# EAGLE library part JUMPER_JP3Q (library DLOCK_DAUGHTER_CARD_V0.2)
JUMPER
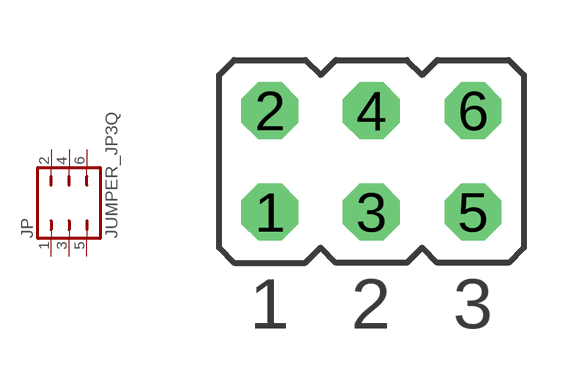
[diagram p4: symbol with the pads of JUMPER_JP3Q; footprint JUMPER_JP3Q]

Designator prefix JP

## JUMPER_JP3Q  [JUMPER_JP3Q]
1  1  pas
2  2  pas
3  3  pas
4  4  pas
5  5  pas
6  6  pas

## Footprint JUMPER_JP3Q (pad centres in mm)
JUMPER
drill 0.914 octagon: 1 -2.54,-1.27; 2 -2.54,1.27; 3 0,-1.27; 4 0,1.27; 5 2.54,-1.27; 6 2.54,1.27